# Altium integrated library DCDC.IntLib: 4 symbols
Pins are listed as number, name and electrical type; pins without a type are passive.

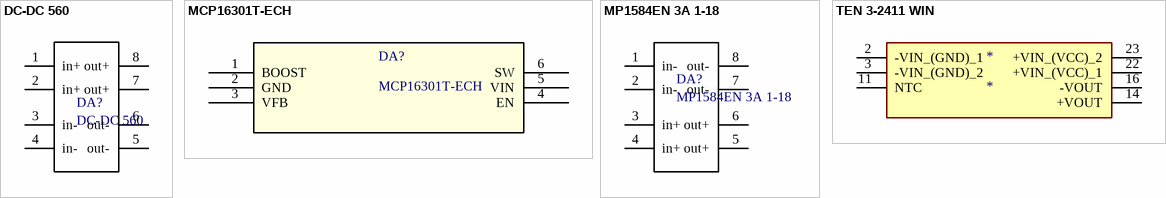
[diagram p0: symbols DC-DC 560 to TEN 3-2411 WIN]

## DC-DC 560
designator DA?
footprint DC-DC 560 (DC-DC 56)
pins: 1 in+, 2 in+, 3 in-, 4 in-, 5 out-, 6 out-, 7 out+, 8 out+

## MCP16301T-ECH
designator DA?
footprint MCP16301T-ECH
pins: 1 BOOST, 2 GND (power), 3 VFB, 4 EN, 5 VIN, 6 SW

## MP1584EN 3A 1-18
designator DA?
footprint MP1584EN 3A 1-18
pins: 1 in-, 2 in-, 3 in+, 4 in+, 5 out+, 6 out+, 7 out-, 8 out-

## TEN 3-2411 WIN
designator *
footprint TEN 3-2411 WIN
pins: 2 -VIN_(GND)_1, 3 -VIN_(GND)_2, 11 NTC, 14 +VOUT, 16 -VOUT, 22 +VIN_(VCC)_1, 23 +VIN_(VCC)_2